# Altium schematic symbol library Tantalum-1206.SchLib: 1 symbol
Pins are listed as number, name and electrical type; pins without a type are passive.

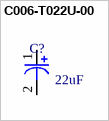
[diagram p0: symbol C006-T022U-00]

## C006-T022U-00
designator C?  value 22uF  (hidden comment: C006-T022U-00)
CAP TANT 1206 22uF 6.3V 2.5ohm 20%; Package: Molded 1206; Tolerance: 20%; Voltage: 6.3V; Supplier 1: Digi-Key; Supplier Part Number 1: 478-8164-1-ND
footprint Tantalum-1206 (Tantalum Capacitor, 1206 Package)
pins: 1, 2